# EAGLE library part ADP3336 (library v-reg-analogdevices)
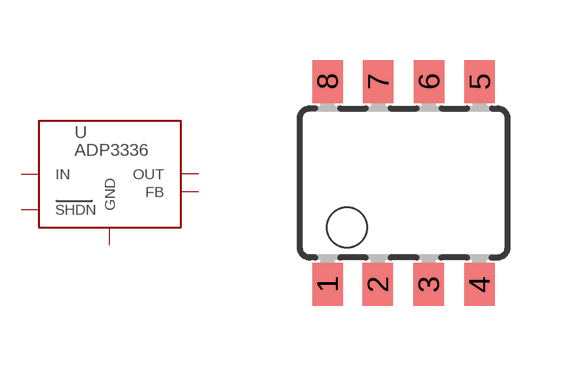
[diagram p0: symbol with the pads of SO8; footprint SO8]

Designator prefix -

## ADP3336  [SO8]
1  OUT
2  OUT1
3  OUT2
4  GND
5  FB
6  SHDN
7  IN
8  IN1

## Footprint SO8 (pad centres in mm)
smd 0.762 x 1.079: 1 -1.905,-2.54; 2 -0.645,-2.54; 3 0.625,-2.54; 4 1.895,-2.54; 5 1.905,2.54; 6 0.635,2.54; 7 -0.635,2.54; 8 -1.905,2.54